# EAGLE library part LT3684 (library linear-technology)
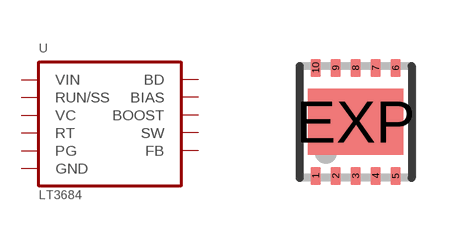
[diagram p30: symbol with the pads of DFN10-3X3; footprint DFN10-3X3]

Designator prefix -

## LT3684  [DFN10-3X3]
1  BD
2  BOOST
3  SW
4  VIN
5  RUN/SS
6  PG
7  BIAS
8  FB
9  VC
10  RT
EXP  GND

## Footprint DFN10-3X3 (pad centres in mm)
DD Package 10-Lead Plastic DFN (3mm × 3mm) (Reference LTC DWG # 05-08-1669) Source: http://www.linear.com .. 4062fa.pdf
smd 0.25 x 0.45: 1 -1,-1.35; 2 -0.5,-1.35; 3 0,-1.35; 4 0.5,-1.35; 5 1,-1.35; 6 1,1.35; 7 0.5,1.35; 8 0,1.35; 9 -0.5,1.35; 10 -1,1.35
smd 2.38 x 1.65: EXP 0,0